# EAGLE library part SN74HC164PWR (library SN74HC164PWR)
8-Bit Parallel-Out Serial Shift Registers Source: Datasheet <http://www.ti.com/lit/gpn/sn74hc164>
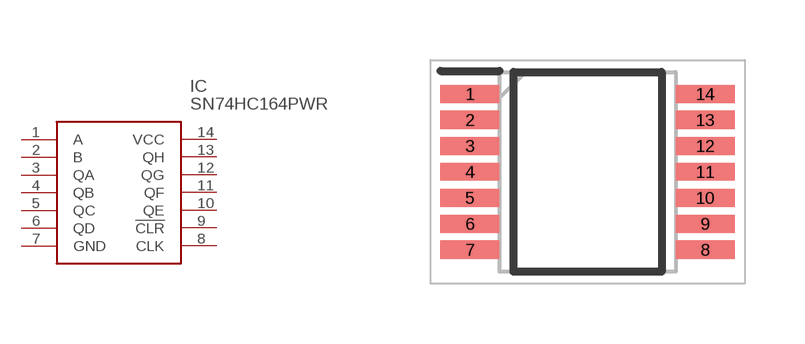
[diagram p0: symbol with the pads of SOP65P640X120-14N; footprint SOP65P640X120-14N]

Designator prefix IC

## SN74HC164PWR (Arrow_Part_Number: SN74HC164PWR; Arrow_Price-Stock: https://www.arrow.com/en/products/sn74hc164pwr/texas-instruments?utm_currency=USD&region=nac; Description: 8-Bit Parallel-Out Serial Shift Registers; Height: 1.2mm; Manufacturer_Name: Texas Instruments; Manufacturer_Part_Number: SN74HC164PWR; Mouser_Part_Number: 595-SN74HC164PWR; Mouser_Price-Stock: https://www.mouser.co.uk/ProductDetail/Texas-Instruments/SN74HC164PWR?qs=rgxfVHSNRPUUA6cIRqtUEQ%3D%3D)  [SOP65P640X120-14N]
1  A
2  B
3  QA
4  QB
5  QC
6  QD
7  GND
8  CLK
9  !CLR
10  QE
11  QF
12  QG
13  QH
14  VCC

## Footprint SOP65P640X120-14N (pad centres in mm)
PW (R-PDSO-G14)
smd 1.475 x 0.45: 1 -2.938,1.95; 2 -2.938,1.3; 3 -2.938,0.65; 4 -2.938,0; 5 -2.938,-0.65; 6 -2.938,-1.3; 7 -2.938,-1.95; 8 2.938,-1.95; 9 2.938,-1.3; 10 2.938,-0.65; 11 2.938,0; 12 2.938,0.65; 13 2.938,1.3; 14 2.938,1.95